# EAGLE library part VREG_SOT23-6_DUAL (library microbuilder)
Dual Output SOT23-6 Linear Regulators Diodes Inc. AP7312 - Dual 150mA LDO Linear Regulator 0.2V dropout, 150mA output, 2-6V Input AP7312-1833W6-7 - 1.8V/3.3V SOT23-6 (Digikey: AP7312-1833W6-7DICT-ND) MIC5320 - Dual 150mA ULDO Linear Regulator Ultra-low 35mV dropout at 150mA, 2.3-5.5V Input 3.3V/1.8V SOT23-6 (Digikey: 576-1658-1-ND) 3.3V/1.5V SOT23-6 (Digikey: 576-3483-1-ND)
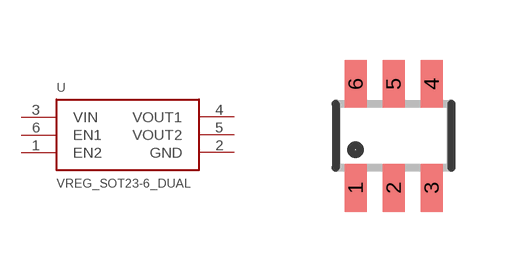
[diagram p36: symbol with the pads of SOT23-6; footprint SOT23-6]

Designator prefix U

## VREG_SOT23-6_DUALMIC5320  [SOT23-6]
1  EN2
2  GND
3  VIN
4  VOUT1
5  VOUT2
6  EN1

## VREG_SOT23-6_DUALAP7312  [SOT23-6]
1  VOUT2
2  GND
3  EN2
4  EN1
5  VIN
6  VOUT1

## Footprint SOT23-6 (pad centres in mm)
Small Outline Transistor - 6 Pin
smd 0.55 x 1.2: 1 -0.95,-1.3; 2 0,-1.3; 3 0.95,-1.3; 4 0.95,1.3; 5 0,1.3; 6 -0.95,1.3